# Altium schematic symbol library BAT54C.SchLib: 2 symbols
Pins are listed as number, name and electrical type; pins without a type are passive.

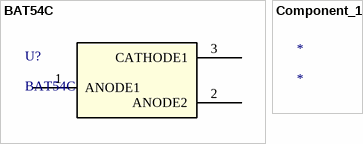
[diagram p0: symbols BAT54C to Component_1]

## BAT54C
designator U?
No Description Available; Mfr_Name: Nexperia; Copyright: Copyright (C) 2022 Ultra Librarian. All rights reserved.; Manufacturer_Part_Number: BAT54C; RefDes: RefDes; Type: DEV
footprint SOT23_NEX
pins: 1 ANODE1, 2 ANODE2, 3 CATHODE1

## Component_1
designator *